# Altium footprint library SC_APDS-9004.PcbLib: 1 footprints
Each footprint in its own frame and in the unit in brackets; x right, y up, seen from the top. Pads: shape width x height; smd on the part's side, far side on the other; paste and mask are expansions set on the pad; w line width, h text height; cw(c..) or ccw(c..) is an arc to the next point about the centre after c.
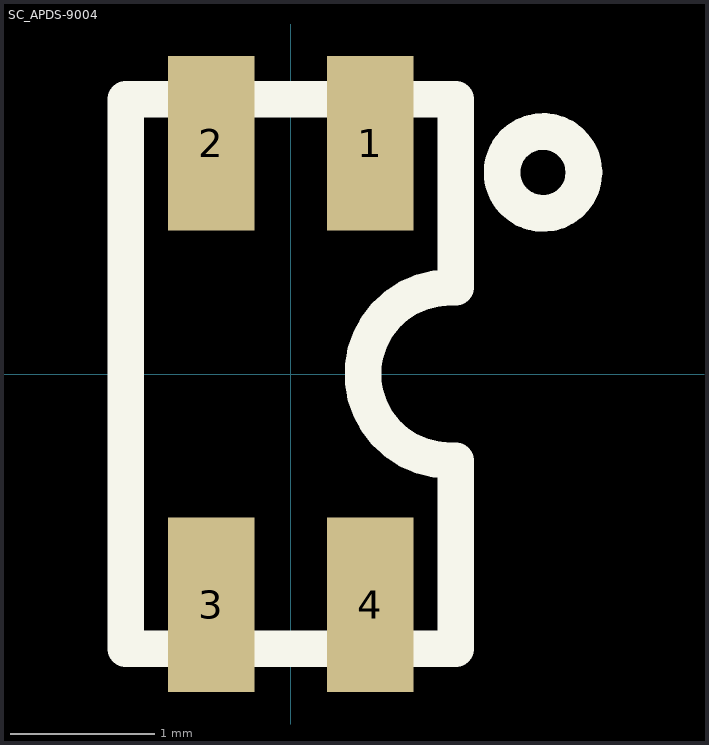
[diagram p0: the footprint, top view; thin cyan lines are the x and y axes]

## SC_APDS-9004 [mm] "3.2mmx1.6mm Ambient Light Sensor"
pads (4):
  rect 0.6x1.21 smd: 1(0.55,1.6) 2(-0.55,1.6) 3(-0.55,-1.6) 4(0.55,-1.6)
Top Overlay:
  circle w0.254: c1.748,1.397 r0.284
  lines w0.254: -1.143,-1.905 1.143,-1.905 1.143,-0.6 1.1,-0.6 cw(c1.1,0) 1.1,0.6 1.143,0.6 1.143,1.905 -1.143,1.905 -1.143,-1.905
3D body: height 1.1, standoff 0.28, extent -0.8,-0.8 0.8,0.8
3D body: height 0.28, standoff 0, extent -0.8,-1.6 0.8,1.6